# EAGLE library part SC189ZULTRT (library SC189ZULTRT)
Switching Voltage Regulators SYNC STEP DOWN REGULATOR To check availblity Click Here.! <https://punoscho.in/product/3-3v-1-5a/>
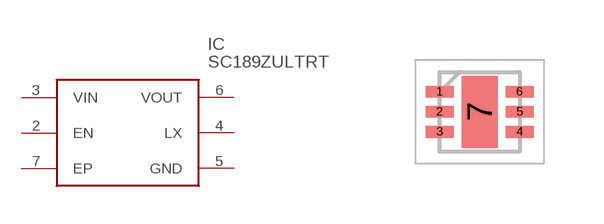
[diagram p0: symbol with the pads of SON50P200X200X60-7N; footprint SON50P200X200X60-7N]

Designator prefix IC

## SC189ZULTRT (DESCRIPTION: Switching Voltage Regulators SYNC STEP DOWN REGULATOR; MFR: SEMTECH; MFR-PN: SC189ZULTRT; PACKAGE: MLPD-UT-16; SUPPLIER: Punoscho.in; SUPPLIER-PN: PU-0178)  [SON50P200X200X60-7N]
2  EN
3  VIN
4  LX
5  GND
6  VOUT
7  EP

## Footprint SON50P200X200X60-7N (pad centres in mm)
MLPD-UT6 2x2
smd 0.7 x 0.3: 1 -1,0.5; 2 -1,0; 3 -1,-0.5; 4 1,-0.5; 5 1,0; 6 1,0.5
smd 0.9 x 1.8: 7 0,0